# Altium integrated library Analog Devices Audio and Video Video Amps, Buffers and Filters.IntLib: 89 symbols (part 5 of 5)
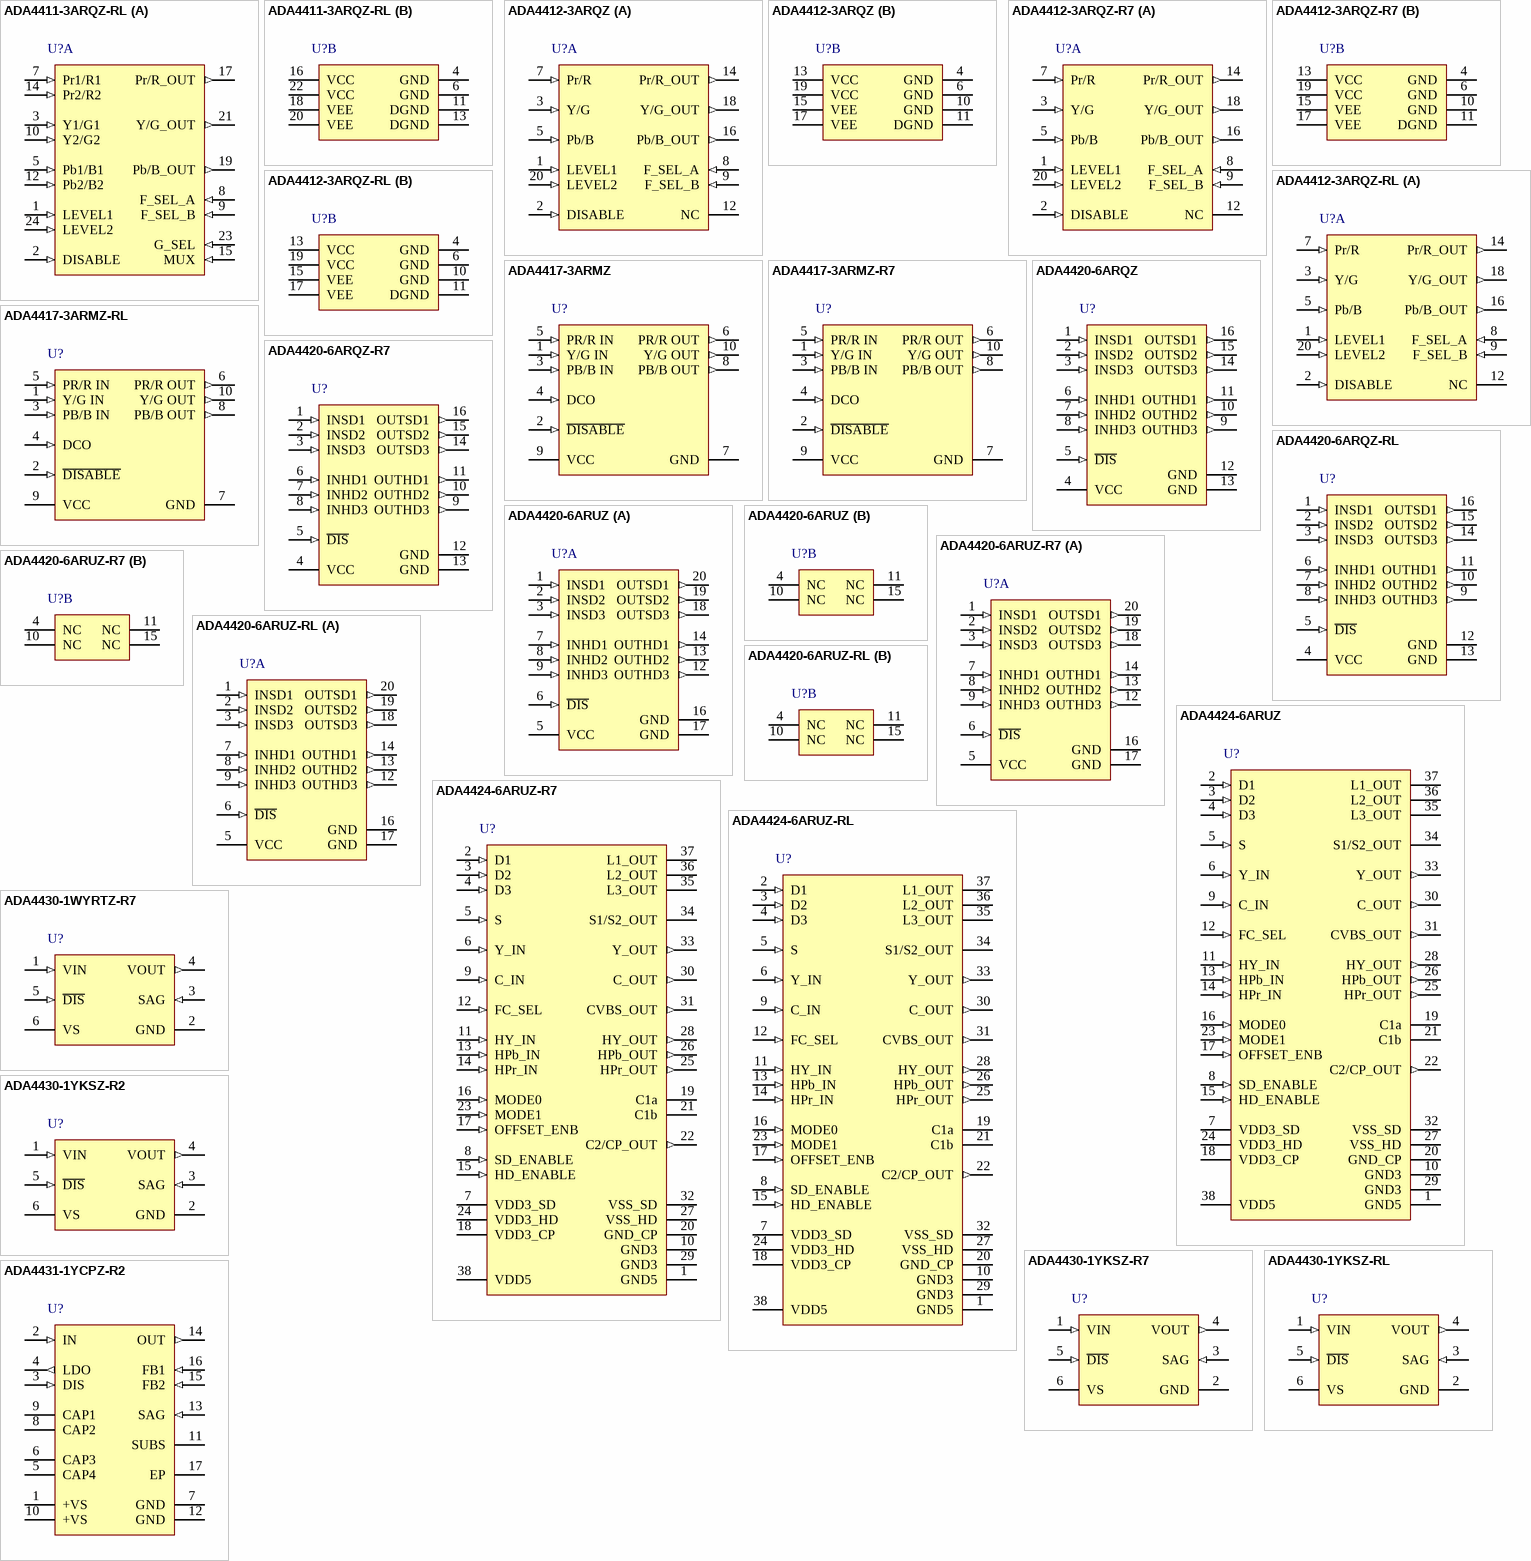
[diagram p8: symbols ADA4411-3ARQZ-RL to ADA4431-1YCPZ-R2]

## ADA4420-6ARUZ-R7
designator U?
Low Cost 6-Channel HD / SD Video Filter, 5.25 V Max Supply, Industrial, 20-pin SOP (RU-20), Reel; Manufacturer: Analog Devices; PartNumber: ADA4420-6ARUZ-R7; Max Pos Supply: 5.25V; Standards: RGB, Y/C, YPbPr, CVBS; DatasheetVersion: Rev. A; PackageVersion: Jan-03; PackageReference: RU-20; PackageDescription: 20-Pin Thin Shrink Small Outline Package, Body 6.5 x 4.4 mm, Pitch 0.65 mm; Supplier 1: Mouser; Supplier Part Number 1: N/A; Packing: Reel; Mounting Technology: Surface Mount; Code_JEDEC: MO-153AC; ComponentLink1Description: Manufacturer URL; ComponentLink1URL: http://www.analog.com/en/index.html; ComponentLink2Description: Datasheet; ComponentLink2URL: http://www.analog.com/static/imported-files/data_sheets/ADA4420-6.pdf; ComponentLink3Description: Package Specification; ComponentLink3URL: http://www.analog.com/static/imported-files/packages/364515793657813558433715854054607941441RU20.pdf; ComponentLink4Description: URL Link1; ComponentLink4URL: Product URL:http://www.analog.com/en/specialty-amplifiers/video-ampsbuffersfilters/ada4420-6/products/product.html
footprint ADI-RU-20_N (SOP, 20-Leads, Body 6.5x4.4mm, Pitch 0.65mm, IPC Medium Density)
footprint ADI-RU-20_L (SOP, 20-Leads, Body 6.5x4.4mm, Pitch 0.65mm, IPC High Density)
footprint ADI-RU-20_M (SOP, 20-Leads, Body 6.5x4.4mm, Pitch 0.65mm, IPC Low Density)
part A pins: 1 INSD1 (in) "Standard Definition Input 1.", 2 INSD2 (in) "Standard Definition Input 2.", 3 INSD3 (in) "Standard Definition Input 3.", 5 VCC (power) "Power Supply.", 6 ~{DIS} (in) "Disable/Power Down Input.", 7 INHD1 (in) "High Definition Input 1.", 8 INHD2 (in) "High Definition Input 2.", 9 INHD3 (in) "High Definition Input 3.", 12 OUTHD3 (out) "High Definition Output 3.", 13 OUTHD2 (out) "High Definition Output 2.", 14 OUTHD1 (out) "High Definition Output 1.", 16 GND (power) "Ground.", 17 GND (power) "Ground.", 18 OUTSD3 (out) "Standard Definition Output 3.", 19 OUTSD2 (out) "Standard Definition Output 2.", 20 OUTSD1 (out) "Standard Definition Output 1."
part B pins: 4 NC "Do not connect to this pin.", 10 NC "Do not connect to this pin.", 11 NC "Do not connect to this pin.", 15 NC "No Connection."

## ADA4420-6ARUZ-RL
designator U?
Low Cost 6-Channel HD / SD Video Filter, 5.25 V Max Supply, Industrial, 20-pin SOP (RU-20), Reel; Manufacturer: Analog Devices; PartNumber: ADA4420-6ARUZ-RL; Max Pos Supply: 5.25V; Standards: RGB, Y/C, YPbPr, CVBS; DatasheetVersion: Rev. A; PackageVersion: Jan-03; PackageReference: RU-20; PackageDescription: 20-Pin Thin Shrink Small Outline Package, Body 6.5 x 4.4 mm, Pitch 0.65 mm; Supplier 1: Mouser; Supplier Part Number 1: N/A; Packing: Reel; Mounting Technology: Surface Mount; Code_JEDEC: MO-153AC; ComponentLink1Description: Manufacturer URL; ComponentLink1URL: http://www.analog.com/en/index.html; ComponentLink2Description: Datasheet; ComponentLink2URL: http://www.analog.com/static/imported-files/data_sheets/ADA4420-6.pdf; ComponentLink3Description: Package Specification; ComponentLink3URL: http://www.analog.com/static/imported-files/packages/364515793657813558433715854054607941441RU20.pdf; ComponentLink4Description: URL Link1; ComponentLink4URL: Product URL:http://www.analog.com/en/specialty-amplifiers/video-ampsbuffersfilters/ada4420-6/products/product.html
footprint ADI-RU-20_N (SOP, 20-Leads, Body 6.5x4.4mm, Pitch 0.65mm, IPC Medium Density)
footprint ADI-RU-20_L (SOP, 20-Leads, Body 6.5x4.4mm, Pitch 0.65mm, IPC High Density)
footprint ADI-RU-20_M (SOP, 20-Leads, Body 6.5x4.4mm, Pitch 0.65mm, IPC Low Density)
part A pins: 1 INSD1 (in) "Standard Definition Input 1.", 2 INSD2 (in) "Standard Definition Input 2.", 3 INSD3 (in) "Standard Definition Input 3.", 5 VCC (power) "Power Supply.", 6 ~{DIS} (in) "Disable/Power Down Input.", 7 INHD1 (in) "High Definition Input 1.", 8 INHD2 (in) "High Definition Input 2.", 9 INHD3 (in) "High Definition Input 3.", 12 OUTHD3 (out) "High Definition Output 3.", 13 OUTHD2 (out) "High Definition Output 2.", 14 OUTHD1 (out) "High Definition Output 1.", 16 GND (power) "Ground.", 17 GND (power) "Ground.", 18 OUTSD3 (out) "Standard Definition Output 3.", 19 OUTSD2 (out) "Standard Definition Output 2.", 20 OUTSD1 (out) "Standard Definition Output 1."
part B pins: 4 NC "Do not connect to this pin.", 10 NC "Do not connect to this pin.", 11 NC "Do not connect to this pin.", 15 NC "No Connection."

## ADA4424-6ARUZ
designator U?
6-Channel SD / ED / HD Video Filter with Charge Pump, 5.25 V Max Supply, 1080i, 720p Resolution, Industrial, 38-pin SOP (RU-38), Tube; Manufacturer: Analog Devices; PartNumber: ADA4424-6ARUZ; Max Pos Supply: 5.25V; Resolution: 1080i, 720p, 480; Standards: SD, ED, HD; DatasheetVersion: Rev. C; PackageVersion: Mar-03; PackageReference: RU-38; PackageDescription: 38-Pin Thin Shrink Small Outline Package, Body 9.7 x 4.4 mm, Pitch 0.5 mm; Supplier 1: Digi-Key; Supplier Part Number 1: ADA4424-6ARUZ-ND; Supplier 2: Mouser; Supplier Part Number 2: 584-ADA4424-6ARUZ; Packing: Tube; Mounting Technology: Surface Mount; Code_JEDEC: MS-153BD-1; ComponentLink1Description: Manufacturer URL; ComponentLink1URL: http://www.analog.com/en/index.html; ComponentLink2Description: Datasheet; ComponentLink2URL: http://www.analog.com/static/imported-files/data_sheets/ADA4424-6.pdf; ComponentLink3Description: Package Specification; ComponentLink3URL: http://www.analog.com/static/imported-files/packages/36817415413609854197792024125RU38.pdf; ComponentLink4Description: URL Link1; ComponentLink4URL: Product URL:http://www.analog.com/en/specialty-amplifiers/video-ampsbuffersfilters/ada4424-6/products/product.html
footprint ADI-RU-38_N (SOP, 38-Leads, Body 9.7x4.4mm, Pitch 0.5mm, IPC Medium Density)
footprint ADI-RU-38_L (SOP, 38-Leads, Body 9.7x4.4mm, Pitch 0.5mm, IPC High Density)
footprint ADI-RU-38_M (SOP, 38-Leads, Body 9.7x4.4mm, Pitch 0.5mm, IPC Low Density)
pins: 1 GND5 (power) "Ground Pin for 5 V Supply.", 2 D1 (in) "D-Terminal Vertical Resolution Selection Input.", 3 D2 (in) "D-Terminal Scan Selection Input.", 4 D3 (in) "D-Terminal Aspect Ratio Selection Input.", 5 S (in) "S-Terminal Aspect Ratio Selection Input.", 6 Y_IN (in) "SD Luma (Y) Input.", 7 VDD3_SD (power) "3.3 V Supply Pin for SD Filter Section.", 8 SD_ENABLE (in) "Output Enable Pin for SD (Y, C, CVBS).", 9 C_IN (in) "SD Chroma (C) Input.", 10 GND3 (power) "Ground Pins for 3.3 V Supply.", 11 HY_IN (in) "ED/HD Y Component Input.", 12 FC_SEL (in) "Filter Corner Frequency Selection Pin for HY, HPb, HPr Channels.", 13 HPb_IN (in) "ED/HD Pb Component Input.", 14 HPr_IN (in) "ED/HD Pr Component Input.", 15 HD_ENABLE (in) "Output Enable Pin for ED/HD (HY, HPb, HPr).", 16 MODE0 (in) "This pin selects sync tip or back porch sampling when MODE1 = 0 and selects high or low fixed offset subtraction when MODE1 = 1.", 17 OFFSET_ENB (in) "Offset Cancellation Enable Pin.", 18 VDD3_CP (power) "3.3 V Supply Pins for Charge Pump Section.", 19 C1a "Charge Pump Capacitor C1 Connection Pin.", 20 GND_CP (power) "Ground Pin for 3.3 V Charge Pump Supply.", 21 C1b "Charge Pump Capacitor C1 Connection Pin.", 22 C2/CP_OUT (out) "Charge Pump Output Pin. Connect Capacitor C2 from this pin to ground.", 23 MODE1 (in) "Selects Automatic or Fixed Offset Subtraction Mode.", 24 VDD3_HD (power) "3.3 V Supply Pin for ED/HD Filter Section.", 25 HPr_OUT (out) "ED/HD Pr Component Output.", 26 HPb_OUT (out) "ED/HD Pb Component Output.", 27 VSS_HD (power) "Negative Supply Pin for ED/HD Filter Section. This pin should be connected to the charge pump output (Pin 22), as shown in Figure 18.", 28 HY_OUT (out) "ED/HD Y Component Output", 29 GND3 (power) "Ground Pins for 3.3 V Supply.", 30 C_OUT (out) "SD Chroma (C) Output.", 31 CVBS_OUT (out) "SD Composite Video (CVBS) Output.", 32 VSS_SD (power) "Negative Supply Pin for SD Filter Section. This pin should be connected to the charge pump output (Pin 22), as shown in Figure 18.", 33 Y_OUT (out) "SD Luma (Y) Output.", 34 S1/S2_OUT (hiz) "S-Terminal Aspect Ratio Selection Output.", 35 L3_OUT (hiz) "D-Terminal Aspect Ratio Selection Output.", 36 L2_OUT (hiz) "D-Terminal Scan Selection Output.", 37 L1_OUT (hiz) "D-Terminal Vertical Resolution Selection Output.", 38 VDD5 (power) "5 V Supply Pin for D-Terminal and S-Terminal Signaling."

## ADA4424-6ARUZ-R7
designator U?
6-Channel SD / ED / HD Video Filter with Charge Pump, 5.25 V Max Supply, 1080i, 720p Resolution, Industrial, 38-pin SOP (RU-38), Reel; Manufacturer: Analog Devices; PartNumber: ADA4424-6ARUZ-R7; Max Pos Supply: 5.25V; Resolution: 1080i, 720p, 480; Standards: SD, ED, HD; DatasheetVersion: Rev. C; PackageVersion: Mar-03; PackageReference: RU-38; PackageDescription: 38-Pin Thin Shrink Small Outline Package, Body 9.7 x 4.4 mm, Pitch 0.5 mm; Supplier 1: Digi-Key; Supplier Part Number 1: ADA4424-6ARUZ-R7-ND; Supplier 2: Mouser; Supplier Part Number 2: 584-ADA4424-6ARUZ-R7; Packing: Reel; Mounting Technology: Surface Mount; Code_JEDEC: MS-153BD-1; ComponentLink1Description: Manufacturer URL; ComponentLink1URL: http://www.analog.com/en/index.html; ComponentLink2Description: Datasheet; ComponentLink2URL: http://www.analog.com/static/imported-files/data_sheets/ADA4424-6.pdf; ComponentLink3Description: Package Specification; ComponentLink3URL: http://www.analog.com/static/imported-files/packages/36817415413609854197792024125RU38.pdf; ComponentLink4Description: URL Link1; ComponentLink4URL: Product URL:http://www.analog.com/en/specialty-amplifiers/video-ampsbuffersfilters/ada4424-6/products/product.html
footprint ADI-RU-38_N (SOP, 38-Leads, Body 9.7x4.4mm, Pitch 0.5mm, IPC Medium Density)
footprint ADI-RU-38_L (SOP, 38-Leads, Body 9.7x4.4mm, Pitch 0.5mm, IPC High Density)
footprint ADI-RU-38_M (SOP, 38-Leads, Body 9.7x4.4mm, Pitch 0.5mm, IPC Low Density)
pins: 1 GND5 (power) "Ground Pin for 5 V Supply.", 2 D1 (in) "D-Terminal Vertical Resolution Selection Input.", 3 D2 (in) "D-Terminal Scan Selection Input.", 4 D3 (in) "D-Terminal Aspect Ratio Selection Input.", 5 S (in) "S-Terminal Aspect Ratio Selection Input.", 6 Y_IN (in) "SD Luma (Y) Input.", 7 VDD3_SD (power) "3.3 V Supply Pin for SD Filter Section.", 8 SD_ENABLE (in) "Output Enable Pin for SD (Y, C, CVBS).", 9 C_IN (in) "SD Chroma (C) Input.", 10 GND3 (power) "Ground Pins for 3.3 V Supply.", 11 HY_IN (in) "ED/HD Y Component Input.", 12 FC_SEL (in) "Filter Corner Frequency Selection Pin for HY, HPb, HPr Channels.", 13 HPb_IN (in) "ED/HD Pb Component Input.", 14 HPr_IN (in) "ED/HD Pr Component Input.", 15 HD_ENABLE (in) "Output Enable Pin for ED/HD (HY, HPb, HPr).", 16 MODE0 (in) "This pin selects sync tip or back porch sampling when MODE1 = 0 and selects high or low fixed offset subtraction when MODE1 = 1.", 17 OFFSET_ENB (in) "Offset Cancellation Enable Pin.", 18 VDD3_CP (power) "3.3 V Supply Pins for Charge Pump Section.", 19 C1a "Charge Pump Capacitor C1 Connection Pin.", 20 GND_CP (power) "Ground Pin for 3.3 V Charge Pump Supply.", 21 C1b "Charge Pump Capacitor C1 Connection Pin.", 22 C2/CP_OUT (out) "Charge Pump Output Pin. Connect Capacitor C2 from this pin to ground.", 23 MODE1 (in) "Selects Automatic or Fixed Offset Subtraction Mode.", 24 VDD3_HD (power) "3.3 V Supply Pin for ED/HD Filter Section.", 25 HPr_OUT (out) "ED/HD Pr Component Output.", 26 HPb_OUT (out) "ED/HD Pb Component Output.", 27 VSS_HD (power) "Negative Supply Pin for ED/HD Filter Section. This pin should be connected to the charge pump output (Pin 22), as shown in Figure 18.", 28 HY_OUT (out) "ED/HD Y Component Output", 29 GND3 (power) "Ground Pins for 3.3 V Supply.", 30 C_OUT (out) "SD Chroma (C) Output.", 31 CVBS_OUT (out) "SD Composite Video (CVBS) Output.", 32 VSS_SD (power) "Negative Supply Pin for SD Filter Section. This pin should be connected to the charge pump output (Pin 22), as shown in Figure 18.", 33 Y_OUT (out) "SD Luma (Y) Output.", 34 S1/S2_OUT (hiz) "S-Terminal Aspect Ratio Selection Output.", 35 L3_OUT (hiz) "D-Terminal Aspect Ratio Selection Output.", 36 L2_OUT (hiz) "D-Terminal Scan Selection Output.", 37 L1_OUT (hiz) "D-Terminal Vertical Resolution Selection Output.", 38 VDD5 (power) "5 V Supply Pin for D-Terminal and S-Terminal Signaling."

## ADA4424-6ARUZ-RL
designator U?
6-Channel SD / ED / HD Video Filter with Charge Pump, 5.25 V Max Supply, 1080i, 720p Resolution, Industrial, 38-pin SOP (RU-38), Reel; Manufacturer: Analog Devices; PartNumber: ADA4424-6ARUZ-RL; Max Pos Supply: 5.25V; Resolution: 1080i, 720p, 480; Standards: SD, ED, HD; DatasheetVersion: Rev. C; PackageVersion: Mar-03; PackageReference: RU-38; PackageDescription: 38-Pin Thin Shrink Small Outline Package, Body 9.7 x 4.4 mm, Pitch 0.5 mm; Supplier 1: Digi-Key; Supplier Part Number 1: ADA4424-6ARUZ-RL-ND; Supplier 2: Mouser; Supplier Part Number 2: 584-ADA4424-6ARUZ-R; Packing: Reel; Mounting Technology: Surface Mount; Code_JEDEC: MS-153BD-1; ComponentLink1Description: Manufacturer URL; ComponentLink1URL: http://www.analog.com/en/index.html; ComponentLink2Description: Datasheet; ComponentLink2URL: http://www.analog.com/static/imported-files/data_sheets/ADA4424-6.pdf; ComponentLink3Description: Package Specification; ComponentLink3URL: http://www.analog.com/static/imported-files/packages/36817415413609854197792024125RU38.pdf; ComponentLink4Description: URL Link1; ComponentLink4URL: Product URL:http://www.analog.com/en/specialty-amplifiers/video-ampsbuffersfilters/ada4424-6/products/product.html
footprint ADI-RU-38_N (SOP, 38-Leads, Body 9.7x4.4mm, Pitch 0.5mm, IPC Medium Density)
footprint ADI-RU-38_L (SOP, 38-Leads, Body 9.7x4.4mm, Pitch 0.5mm, IPC High Density)
footprint ADI-RU-38_M (SOP, 38-Leads, Body 9.7x4.4mm, Pitch 0.5mm, IPC Low Density)
pins: 1 GND5 (power) "Ground Pin for 5 V Supply.", 2 D1 (in) "D-Terminal Vertical Resolution Selection Input.", 3 D2 (in) "D-Terminal Scan Selection Input.", 4 D3 (in) "D-Terminal Aspect Ratio Selection Input.", 5 S (in) "S-Terminal Aspect Ratio Selection Input.", 6 Y_IN (in) "SD Luma (Y) Input.", 7 VDD3_SD (power) "3.3 V Supply Pin for SD Filter Section.", 8 SD_ENABLE (in) "Output Enable Pin for SD (Y, C, CVBS).", 9 C_IN (in) "SD Chroma (C) Input.", 10 GND3 (power) "Ground Pins for 3.3 V Supply.", 11 HY_IN (in) "ED/HD Y Component Input.", 12 FC_SEL (in) "Filter Corner Frequency Selection Pin for HY, HPb, HPr Channels.", 13 HPb_IN (in) "ED/HD Pb Component Input.", 14 HPr_IN (in) "ED/HD Pr Component Input.", 15 HD_ENABLE (in) "Output Enable Pin for ED/HD (HY, HPb, HPr).", 16 MODE0 (in) "This pin selects sync tip or back porch sampling when MODE1 = 0 and selects high or low fixed offset subtraction when MODE1 = 1.", 17 OFFSET_ENB (in) "Offset Cancellation Enable Pin.", 18 VDD3_CP (power) "3.3 V Supply Pins for Charge Pump Section.", 19 C1a "Charge Pump Capacitor C1 Connection Pin.", 20 GND_CP (power) "Ground Pin for 3.3 V Charge Pump Supply.", 21 C1b "Charge Pump Capacitor C1 Connection Pin.", 22 C2/CP_OUT (out) "Charge Pump Output Pin. Connect Capacitor C2 from this pin to ground.", 23 MODE1 (in) "Selects Automatic or Fixed Offset Subtraction Mode.", 24 VDD3_HD (power) "3.3 V Supply Pin for ED/HD Filter Section.", 25 HPr_OUT (out) "ED/HD Pr Component Output.", 26 HPb_OUT (out) "ED/HD Pb Component Output.", 27 VSS_HD (power) "Negative Supply Pin for ED/HD Filter Section. This pin should be connected to the charge pump output (Pin 22), as shown in Figure 18.", 28 HY_OUT (out) "ED/HD Y Component Output", 29 GND3 (power) "Ground Pins for 3.3 V Supply.", 30 C_OUT (out) "SD Chroma (C) Output.", 31 CVBS_OUT (out) "SD Composite Video (CVBS) Output.", 32 VSS_SD (power) "Negative Supply Pin for SD Filter Section. This pin should be connected to the charge pump output (Pin 22), as shown in Figure 18.", 33 Y_OUT (out) "SD Luma (Y) Output.", 34 S1/S2_OUT (hiz) "S-Terminal Aspect Ratio Selection Output.", 35 L3_OUT (hiz) "D-Terminal Aspect Ratio Selection Output.", 36 L2_OUT (hiz) "D-Terminal Scan Selection Output.", 37 L1_OUT (hiz) "D-Terminal Vertical Resolution Selection Output.", 38 VDD5 (power) "5 V Supply Pin for D-Terminal and S-Terminal Signaling."

## ADA4430-1WYRTZ-R7
designator U?
Ultralow Power Video Filter with Power-Down, 6 V Max Supply, 480i Resolution, Industrial, 6-pin SOT23 (RJ-6), Reel; Manufacturer: Analog Devices; PartNumber: ADA4430-1WYRTZ-R7; Max Pos Supply: 6V; Standards: SD; DatasheetVersion: Rev. C; PackageVersion: 121608-A, 12/2008; PackageReference: RJ-6; PackageDescription: 6-Pin Small Outline Transistor Package, Body 2.9 x 1.6 mm, Pitch 0.95 mm; Supplier 1: Mouser; Supplier Part Number 1: N/A; Packing: Reel; Mounting Technology: Surface Mount; Code_JEDEC: MO-178-AB; ComponentLink1Description: Manufacturer URL; ComponentLink1URL: http://www.analog.com/en/index.html; ComponentLink2Description: Datasheet; ComponentLink2URL: http://www.analog.com/static/imported-files/data_sheets/ADA4430-1.pdf; ComponentLink3Description: Package Specification; ComponentLink3URL: http://www.analog.com/static/imported-files/packages/PKG_PDF/SOT-23(RJ)/RJ_6.pdf; ComponentLink4Description: URL Link1; ComponentLink4URL: Product URL:http://www.analog.com/en/specialty-amplifiers/video-ampsbuffersfilters/ada4430-1/products/product.html
footprint ADI-RJ-6_N (SOT23, 6-Leads, Body 2.9x1.6mm, Pitch 0.95mm, IPC Medium Density)
footprint ADI-RJ-6_L (SOT23, 6-Leads, Body 2.9x1.6mm, Pitch 0.95mm, IPC High Density)
footprint ADI-RJ-6_M (SOT23, 6-Leads, Body 2.9x1.6mm, Pitch 0.95mm, IPC Low Density)
pins: 1 VIN (in) "Input  Voltage.", 2 GND (power) "Ground.", 3 SAG (in) "Feedback Connection.", 4 VOUT (out) "Output Voltage.", 5 ~{DIS} (in) "Disable.", 6 VS (power) "Positive Power Supply."

## ADA4430-1YKSZ-R2
designator U?
Ultralow Power Video Filter with Power-Down, 6 V Max Supply, 480i Resolution, Industrial, 6-pin SOT23 (KS-6), Reel; Manufacturer: Analog Devices; PartNumber: ADA4430-1YKSZ-R2; Max Pos Supply: 6V; Standards: SD; DatasheetVersion: Rev. C; PackageVersion: 072809-A, 07/2009; PackageReference: KS-6; PackageDescription: 6-Pin Thin Shrink Small Outline Transistor Package, Body 2 x 1.25 mm, Pitch 0.65 mm; Supplier 1: Newark; Supplier Part Number 1: 12M7601; Supplier 2: Mouser; Supplier Part Number 2: N/A; Packing: Reel; Mounting Technology: Surface Mount; Code_JEDEC: MO-203-AB; ComponentLink1Description: Manufacturer URL; ComponentLink1URL: http://www.analog.com/en/index.html; ComponentLink2Description: Datasheet; ComponentLink2URL: http://www.analog.com/static/imported-files/data_sheets/ADA4430-1.pdf; ComponentLink3Description: Package Specification; ComponentLink3URL: http://www.analog.com/static/imported-files/packages/PKG_PDF/SC70(KS)/KS_6.pdf; ComponentLink4Description: URL Link1; ComponentLink4URL: Product URL:http://www.analog.com/en/specialty-amplifiers/video-ampsbuffersfilters/ada4430-1/products/product.html
footprint ADI-KS-6_N (SOT23, 6-Leads, Body 2x1.25mm, Pitch 0.65mm, IPC Medium Density)
footprint ADI-KS-6_L (SOT23, 6-Leads, Body 2x1.25mm, Pitch 0.65mm, IPC High Density)
footprint ADI-KS-6_M (SOT23, 6-Leads, Body 2x1.25mm, Pitch 0.65mm, IPC Low Density)
pins: 1 VIN (in) "Input  Voltage.", 2 GND (power) "Ground.", 3 SAG (in) "Feedback Connection.", 4 VOUT (out) "Output Voltage.", 5 ~{DIS} (in) "Disable.", 6 VS (power) "Positive Power Supply."

## ADA4430-1YKSZ-R7
designator U?
Ultralow Power Video Filter with Power-Down, 6 V Max Supply, 480i Resolution, Industrial, 6-pin SOT23 (KS-6), Reel; Manufacturer: Analog Devices; PartNumber: ADA4430-1YKSZ-R7; Max Pos Supply: 6V; Standards: SD; DatasheetVersion: Rev. C; PackageVersion: 072809-A, 07/2009; PackageReference: KS-6; PackageDescription: 6-Pin Thin Shrink Small Outline Transistor Package, Body 2 x 1.25 mm, Pitch 0.65 mm; Supplier 1: Digi-Key; Supplier Part Number 1: ADA4430-1YKSZ-R7TR-ND; Supplier 2: Digi-Key; Supplier Part Number 2: ADA4430-1YKSZ-R7CT-ND; Supplier 3: Digi-Key; Supplier Part Number 3: ADA4430-1YKSZ-R7DKR-ND; Supplier 4: Farnell; Supplier Part Number 4: 2192157; Supplier 5: Newark; Supplier Part Number 5: 12M7602; Supplier 6: Newark; Supplier Part Number 6: 28X3284; Supplier 7: Mouser; Supplier Part Number 7: 584-ADA4430-1YKSZ-R7; Packing: Reel; Mounting Technology: Surface Mount; Code_JEDEC: MO-203-AB; ComponentLink1Description: Manufacturer URL; ComponentLink1URL: http://www.analog.com/en/index.html; ComponentLink2Description: Datasheet; ComponentLink2URL: http://www.analog.com/static/imported-files/data_sheets/ADA4430-1.pdf; ComponentLink3Description: Package Specification; ComponentLink3URL: http://www.analog.com/static/imported-files/packages/PKG_PDF/SC70(KS)/KS_6.pdf; ComponentLink4Description: URL Link1; ComponentLink4URL: Product URL:http://www.analog.com/en/specialty-amplifiers/video-ampsbuffersfilters/ada4430-1/products/product.html
footprint ADI-KS-6_N (SOT23, 6-Leads, Body 2x1.25mm, Pitch 0.65mm, IPC Medium Density)
footprint ADI-KS-6_L (SOT23, 6-Leads, Body 2x1.25mm, Pitch 0.65mm, IPC High Density)
footprint ADI-KS-6_M (SOT23, 6-Leads, Body 2x1.25mm, Pitch 0.65mm, IPC Low Density)
pins: 1 VIN (in) "Input  Voltage.", 2 GND (power) "Ground.", 3 SAG (in) "Feedback Connection.", 4 VOUT (out) "Output Voltage.", 5 ~{DIS} (in) "Disable.", 6 VS (power) "Positive Power Supply."

## ADA4430-1YKSZ-RL
designator U?
Ultralow Power Video Filter with Power-Down, 6 V Max Supply, 480i Resolution, Industrial, 6-pin SOT23 (KS-6), Reel; Manufacturer: Analog Devices; PartNumber: ADA4430-1YKSZ-RL; Max Pos Supply: 6V; Standards: SD; DatasheetVersion: Rev. C; PackageVersion: 072809-A, 07/2009; PackageReference: KS-6; PackageDescription: 6-Pin Thin Shrink Small Outline Transistor Package, Body 2 x 1.25 mm, Pitch 0.65 mm; Supplier 1: Digi-Key; Supplier Part Number 1: ADA4430-1YKSZ-RL-ND; Supplier 2: Mouser; Supplier Part Number 2: 584-ADA4430-1YKSZ-R; Packing: Reel; Mounting Technology: Surface Mount; Code_JEDEC: MO-203-AB; ComponentLink1Description: Manufacturer URL; ComponentLink1URL: http://www.analog.com/en/index.html; ComponentLink2Description: Datasheet; ComponentLink2URL: http://www.analog.com/static/imported-files/data_sheets/ADA4430-1.pdf; ComponentLink3Description: Package Specification; ComponentLink3URL: http://www.analog.com/static/imported-files/packages/PKG_PDF/SC70(KS)/KS_6.pdf; ComponentLink4Description: URL Link1; ComponentLink4URL: Product URL:http://www.analog.com/en/specialty-amplifiers/video-ampsbuffersfilters/ada4430-1/products/product.html
footprint ADI-KS-6_N (SOT23, 6-Leads, Body 2x1.25mm, Pitch 0.65mm, IPC Medium Density)
footprint ADI-KS-6_L (SOT23, 6-Leads, Body 2x1.25mm, Pitch 0.65mm, IPC High Density)
footprint ADI-KS-6_M (SOT23, 6-Leads, Body 2x1.25mm, Pitch 0.65mm, IPC Low Density)
pins: 1 VIN (in) "Input  Voltage.", 2 GND (power) "Ground.", 3 SAG (in) "Feedback Connection.", 4 VOUT (out) "Output Voltage.", 5 ~{DIS} (in) "Disable.", 6 VS (power) "Positive Power Supply."

## ADA4431-1YCPZ-R2
designator U?
Ultralow Power SD Video Filter with Load Detection, 3.6 V Max Supply, 480i Resolution, Industrial, 16-pin QFN (CP-16-12), Reel; Manufacturer: Analog Devices; PartNumber: ADA4431-1YCPZ-R2; Max Pos Supply: 3.6V; DatasheetVersion: Rev. 0; PackageVersion: 053106-B, 05/2006; PackageReference: CP-16-12; PackageDescription: 16-Pin Lead Frame Chip Scale Package, Body 3 x 3 mm, Pitch 0.5 mm; Supplier 1: Digi-Key; Supplier Part Number 1: ADA4431-1YCPZ-R2CT-ND; Supplier 2: Digi-Key; Supplier Part Number 2: ADA4431-1YCPZ-R2DKR-ND; Supplier 3: Mouser; Supplier Part Number 3: N/A; Packing: Reel; Standards: SD; Mounting Technology: Surface Mount; Code_JEDEC: MO-248-UEED; ComponentLink1Description: Manufacturer URL; ComponentLink1URL: http://www.analog.com/en/index.html; ComponentLink2Description: Datasheet; ComponentLink2URL: http://www.analog.com/static/imported-files/data_sheets/ADA4431-1.pdf; ComponentLink3Description: Package Specification; ComponentLink3URL: http:/www.analog.com/static/imported-files/packages/PKG_PDF/LFCSP(CP)/CP_16_12.pdf; ComponentLink4Description: URL Link1; ComponentLink4URL: Product URL:http://www.analog.com/en/specialty-amplifiers/video-ampsbuffersfilters/ada4431-1/products/product.html
footprint ADI-CP-16-12_N (QFN, 16-Leads, Body 3x3mm, Pitch 0.5mm, Thermal Pad 1.68x1.68mm, IPC Medium Density)
footprint ADI-CP-16-12_L (QFN, 16-Leads, Body 3x3mm, Pitch 0.5mm, Thermal Pad 1.68x1.68mm, IPC High Density)
footprint ADI-CP-16-12_M (QFN, 16-Leads, Body 3x3mm, Pitch 0.5mm, Thermal Pad 1.68x1.68mm, IPC Low Density)
pins: 1 +VS (power) "Supply Voltage.", 2 IN (in) "Video Input.", 3 DIS (in) "Disable Pin. High = charge pump on, floating = charge pump off, low = disabled.", 4 LDO (out) "Load Detect Output. High = video load present.", 5 CAP4 "Capacitor 2, Lead 2.", 6 CAP3 "Capacitor 2, Lead 1.", 7 GND (power) "Ground.", 8 CAP2 "Capacitor 1, Lead 2.", 9 CAP1 "Capacitor 1, Lead 1.", 10 +VS (power) "Supply Voltage.", 11 SUBS "Substrate Voltage Pin. Bypass to GND with 1.0 uF capacitor.", 12 GND (power) "Ground.", 13 SAG (in) "SAG Feedback Pin.", 14 OUT (out) "Video Output.", 15 FB2 (in) "Load Detect Feedback Pin 2. Connect to device side of series termination resistor.", 16 FB1 (in) "Load Detect Feedback Pin 1. Connect to load side of series termination resistor.", 17 EP "EXPOSED PAD"

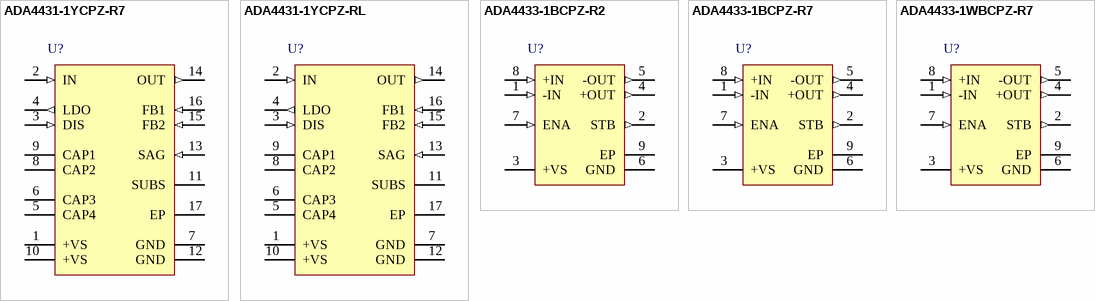
[diagram p4: symbols ADA4431-1YCPZ-R7 to ADA4433-1WBCPZ-R7]

## ADA4431-1YCPZ-R7
designator U?
Ultralow Power SD Video Filter with Load Detection, 3.6 V Max Supply, 480i Resolution, Industrial, 16-pin QFN (CP-16-12), Reel; Manufacturer: Analog Devices; PartNumber: ADA4431-1YCPZ-R7; Max Pos Supply: 3.6V; DatasheetVersion: Rev. 0; PackageVersion: 053106-B, 05/2006; PackageReference: CP-16-12; PackageDescription: 16-Pin Lead Frame Chip Scale Package, Body 3 x 3 mm, Pitch 0.5 mm; Supplier 1: Digi-Key; Supplier Part Number 1: ADA4431-1YCPZ-R7TR-ND; Supplier 2: Digi-Key; Supplier Part Number 2: ADA4431-1YCPZ-R7CT-ND; Supplier 3: Digi-Key; Supplier Part Number 3: ADA4431-1YCPZ-R7DKR-ND; Supplier 4: Mouser; Supplier Part Number 4: 584-ADA4431-1YCPZ-R7; Packing: Reel; Standards: SD; Mounting Technology: Surface Mount; Code_JEDEC: MO-248-UEED; ComponentLink1Description: Manufacturer URL; ComponentLink1URL: http://www.analog.com/en/index.html; ComponentLink2Description: Datasheet; ComponentLink2URL: http://www.analog.com/static/imported-files/data_sheets/ADA4431-1.pdf; ComponentLink3Description: Package Specification; ComponentLink3URL: http:/www.analog.com/static/imported-files/packages/PKG_PDF/LFCSP(CP)/CP_16_12.pdf; ComponentLink4Description: URL Link1; ComponentLink4URL: Product URL:http://www.analog.com/en/specialty-amplifiers/video-ampsbuffersfilters/ada4431-1/products/product.html
footprint ADI-CP-16-12_N (QFN, 16-Leads, Body 3x3mm, Pitch 0.5mm, Thermal Pad 1.68x1.68mm, IPC Medium Density)
footprint ADI-CP-16-12_L (QFN, 16-Leads, Body 3x3mm, Pitch 0.5mm, Thermal Pad 1.68x1.68mm, IPC High Density)
footprint ADI-CP-16-12_M (QFN, 16-Leads, Body 3x3mm, Pitch 0.5mm, Thermal Pad 1.68x1.68mm, IPC Low Density)
pins: 1 +VS (power) "Supply Voltage.", 2 IN (in) "Video Input.", 3 DIS (in) "Disable Pin. High = charge pump on, floating = charge pump off, low = disabled.", 4 LDO (out) "Load Detect Output. High = video load present.", 5 CAP4 "Capacitor 2, Lead 2.", 6 CAP3 "Capacitor 2, Lead 1.", 7 GND (power) "Ground.", 8 CAP2 "Capacitor 1, Lead 2.", 9 CAP1 "Capacitor 1, Lead 1.", 10 +VS (power) "Supply Voltage.", 11 SUBS "Substrate Voltage Pin. Bypass to GND with 1.0 uF capacitor.", 12 GND (power) "Ground.", 13 SAG (in) "SAG Feedback Pin.", 14 OUT (out) "Video Output.", 15 FB2 (in) "Load Detect Feedback Pin 2. Connect to device side of series termination resistor.", 16 FB1 (in) "Load Detect Feedback Pin 1. Connect to load side of series termination resistor.", 17 EP "EXPOSED PAD"

## ADA4431-1YCPZ-RL
designator U?
Ultralow Power SD Video Filter with Load Detection, 3.6 V Max Supply, 480i Resolution, Industrial, 16-pin QFN (CP-16-12), Reel; Manufacturer: Analog Devices; PartNumber: ADA4431-1YCPZ-RL; Max Pos Supply: 3.6V; DatasheetVersion: Rev. 0; PackageVersion: 053106-B, 05/2006; PackageReference: CP-16-12; PackageDescription: 16-Pin Lead Frame Chip Scale Package, Body 3 x 3 mm, Pitch 0.5 mm; Supplier 1: Digi-Key; Supplier Part Number 1: ADA4431-1YCPZ-RL-ND; Supplier 2: Mouser; Supplier Part Number 2: 584-ADA4431-1YCPZ-R; Packing: Reel; Standards: SD; Mounting Technology: Surface Mount; Code_JEDEC: MO-248-UEED; ComponentLink1Description: Manufacturer URL; ComponentLink1URL: http://www.analog.com/en/index.html; ComponentLink2Description: Datasheet; ComponentLink2URL: http://www.analog.com/static/imported-files/data_sheets/ADA4431-1.pdf; ComponentLink3Description: Package Specification; ComponentLink3URL: http:/www.analog.com/static/imported-files/packages/PKG_PDF/LFCSP(CP)/CP_16_12.pdf; ComponentLink4Description: URL Link1; ComponentLink4URL: Product URL:http://www.analog.com/en/specialty-amplifiers/video-ampsbuffersfilters/ada4431-1/products/product.html
footprint ADI-CP-16-12_N (QFN, 16-Leads, Body 3x3mm, Pitch 0.5mm, Thermal Pad 1.68x1.68mm, IPC Medium Density)
footprint ADI-CP-16-12_L (QFN, 16-Leads, Body 3x3mm, Pitch 0.5mm, Thermal Pad 1.68x1.68mm, IPC High Density)
footprint ADI-CP-16-12_M (QFN, 16-Leads, Body 3x3mm, Pitch 0.5mm, Thermal Pad 1.68x1.68mm, IPC Low Density)
pins: 1 +VS (power) "Supply Voltage.", 2 IN (in) "Video Input.", 3 DIS (in) "Disable Pin. High = charge pump on, floating = charge pump off, low = disabled.", 4 LDO (out) "Load Detect Output. High = video load present.", 5 CAP4 "Capacitor 2, Lead 2.", 6 CAP3 "Capacitor 2, Lead 1.", 7 GND (power) "Ground.", 8 CAP2 "Capacitor 1, Lead 2.", 9 CAP1 "Capacitor 1, Lead 1.", 10 +VS (power) "Supply Voltage.", 11 SUBS "Substrate Voltage Pin. Bypass to GND with 1.0 uF capacitor.", 12 GND (power) "Ground.", 13 SAG (in) "SAG Feedback Pin.", 14 OUT (out) "Video Output.", 15 FB2 (in) "Load Detect Feedback Pin 2. Connect to device side of series termination resistor.", 16 FB1 (in) "Load Detect Feedback Pin 1. Connect to load side of series termination resistor.", 17 EP "EXPOSED PAD"

## ADA4433-1BCPZ-R2
designator U?
Fully Differential SD Video Filter Amplifier with Output Short-to-Battery Protection, 3.6 V Max Supply, 480i Resolution, 8-pin SON (CP-8-11), Reel; Manufacturer: Analog Devices; PartNumber: ADA4433-1BCPZ-R2; Max Pos Supply: 3.6V; DatasheetVersion: Rev. A; PackageVersion: 01-24-2011-B, 01/2011; PackageReference: CP-8-11; PackageDescription: 8-Pin Lead Frame Chip Scale Package, Body 3 x 3 mm, Pitch 0.5 mm; Supplier 1: Newark; Supplier Part Number 1: 18X0749; Supplier 2: Mouser; Supplier Part Number 2: N/A; Packing: Reel; Standards: SD; Mounting Technology: Surface Mount; Code_JEDEC: MO-229-WEED; ComponentLink1Description: Manufacturer URL; ComponentLink1URL: http://www.analog.com/en/index.html; ComponentLink2Description: Datasheet; ComponentLink2URL: http://www.analog.com/static/imported-files/data_sheets/ADA4432-1_4433-1.pdf; ComponentLink3Description: Package Specification; ComponentLink3URL: http://www.analog.com/static/imported-files/packages/PKG_PDF/LFCSP(CP)/CP_8_11.pdf; ComponentLink4Description: URL Link1; ComponentLink4URL: Product URL:http://www.analog.com/en/specialty-amplifiers/video-ampsbuffersfilters/ada4433-1/products/product.html
footprint ADI-CP-8-11_N (SON, 8-Leads, Body 3x3mm, Pitch 0.5mm, Thermal Pad 2.44x1.70mm, IPC Medium Density)
footprint ADI-CP-8-11_L (SON, 8-Leads, Body 3x3mm, Pitch 0.5mm, Thermal Pad 2.44x1.70mm, IPC High Density)
footprint ADI-CP-8-11_M (SON, 8-Leads, Body 3x3mm, Pitch 0.5mm, Thermal Pad 2.44x1.70mm, IPC Low Density)
pins: 1 -IN (in) "Inverting Input.", 2 STB (out) "Short-to-Battery Indicator Output. A logic high indicates a short-to-battery condition, and a logic low indicates normal operation.", 3 +VS (power) "Positive Power Supply. Bypass with a 0.1 uF capacitor to GND.", 4 +OUT (out) "Noninverting Output.", 5 -OUT (out) "Inverting Output.", 6 GND (power) "Ground.", 7 ENA (in) "Enable Function. Connect to +VS or float for normal operation; connect to GND for device disable.", 8 +IN (in) "Noninverting Input.", 9 EP (power) "The exposed pad can be connected to the ground plane."

## ADA4433-1BCPZ-R7
designator U?
Fully Differential SD Video Filter Amplifier with Output Short-to-Battery Protection, 3.6 V Max Supply, 480i Resolution, 8-pin SON (CP-8-11), Reel; Manufacturer: Analog Devices; PartNumber: ADA4433-1BCPZ-R7; Max Pos Supply: 3.6V; DatasheetVersion: Rev. A; PackageVersion: 01-24-2011-B, 01/2011; PackageReference: CP-8-11; PackageDescription: 8-Pin Lead Frame Chip Scale Package, Body 3 x 3 mm, Pitch 0.5 mm; Supplier 1: Digi-Key; Supplier Part Number 1: ADA4433-1BCPZ-R7TR-ND; Supplier 2: Digi-Key; Supplier Part Number 2: ADA4433-1BCPZ-R7CT-ND; Supplier 3: Digi-Key; Supplier Part Number 3: ADA4433-1BCPZ-R7DKR-ND; Supplier 4: Farnell; Supplier Part Number 4: 2112335; Supplier 5: Newark; Supplier Part Number 5: 94T9071; Supplier 6: Mouser; Supplier Part Number 6: 584-ADA4433-1BCPZ-R7; Packing: Reel; Standards: SD; Mounting Technology: Surface Mount; Code_JEDEC: MO-229-WEED; ComponentLink1Description: Manufacturer URL; ComponentLink1URL: http://www.analog.com/en/index.html; ComponentLink2Description: Datasheet; ComponentLink2URL: http://www.analog.com/static/imported-files/data_sheets/ADA4432-1_4433-1.pdf; ComponentLink3Description: Package Specification; ComponentLink3URL: http://www.analog.com/static/imported-files/packages/PKG_PDF/LFCSP(CP)/CP_8_11.pdf; ComponentLink4Description: URL Link1; ComponentLink4URL: Product URL:http://www.analog.com/en/specialty-amplifiers/video-ampsbuffersfilters/ada4433-1/products/product.html
footprint ADI-CP-8-11_N (SON, 8-Leads, Body 3x3mm, Pitch 0.5mm, Thermal Pad 2.44x1.70mm, IPC Medium Density)
footprint ADI-CP-8-11_L (SON, 8-Leads, Body 3x3mm, Pitch 0.5mm, Thermal Pad 2.44x1.70mm, IPC High Density)
footprint ADI-CP-8-11_M (SON, 8-Leads, Body 3x3mm, Pitch 0.5mm, Thermal Pad 2.44x1.70mm, IPC Low Density)
pins: 1 -IN (in) "Inverting Input.", 2 STB (out) "Short-to-Battery Indicator Output. A logic high indicates a short-to-battery condition, and a logic low indicates normal operation.", 3 +VS (power) "Positive Power Supply. Bypass with a 0.1 uF capacitor to GND.", 4 +OUT (out) "Noninverting Output.", 5 -OUT (out) "Inverting Output.", 6 GND (power) "Ground.", 7 ENA (in) "Enable Function. Connect to +VS or float for normal operation; connect to GND for device disable.", 8 +IN (in) "Noninverting Input.", 9 EP (power) "The exposed pad can be connected to the ground plane."

## ADA4433-1WBCPZ-R7
designator U?
Fully Differential SD Video Filter Amplifier with Output Short-to-Battery Protection, 3.6 V Max Supply, 480i Resolution, 8-pin SON (CP-8-11), Reel; Manufacturer: Analog Devices; PartNumber: ADA4433-1WBCPZ-R7; Max Pos Supply: 3.6V; DatasheetVersion: Rev. A; PackageVersion: 01-24-2011-B, 01/2011; PackageReference: CP-8-11; PackageDescription: 8-Pin Lead Frame Chip Scale Package, Body 3 x 3 mm, Pitch 0.5 mm; Supplier 1: Mouser; Supplier Part Number 1: N/A; Packing: Reel; Standards: SD; Mounting Technology: Surface Mount; Code_JEDEC: MO-229-WEED; ComponentLink1Description: Manufacturer URL; ComponentLink1URL: http://www.analog.com/en/index.html; ComponentLink2Description: Datasheet; ComponentLink2URL: http://www.analog.com/static/imported-files/data_sheets/ADA4432-1_4433-1.pdf; ComponentLink3Description: Package Specification; ComponentLink3URL: http://www.analog.com/static/imported-files/packages/PKG_PDF/LFCSP(CP)/CP_8_11.pdf; ComponentLink4Description: URL Link1; ComponentLink4URL: Product URL:http://www.analog.com/en/specialty-amplifiers/video-ampsbuffersfilters/ada4433-1/products/product.html
footprint ADI-CP-8-11_N (SON, 8-Leads, Body 3x3mm, Pitch 0.5mm, Thermal Pad 2.44x1.70mm, IPC Medium Density)
footprint ADI-CP-8-11_L (SON, 8-Leads, Body 3x3mm, Pitch 0.5mm, Thermal Pad 2.44x1.70mm, IPC High Density)
footprint ADI-CP-8-11_M (SON, 8-Leads, Body 3x3mm, Pitch 0.5mm, Thermal Pad 2.44x1.70mm, IPC Low Density)
pins: 1 -IN (in) "Inverting Input.", 2 STB (out) "Short-to-Battery Indicator Output. A logic high indicates a short-to-battery condition, and a logic low indicates normal operation.", 3 +VS (power) "Positive Power Supply. Bypass with a 0.1 uF capacitor to GND.", 4 +OUT (out) "Noninverting Output.", 5 -OUT (out) "Inverting Output.", 6 GND (power) "Ground.", 7 ENA (in) "Enable Function. Connect to +VS or float for normal operation; connect to GND for device disable.", 8 +IN (in) "Noninverting Input.", 9 EP (power) "The exposed pad can be connected to the ground plane."